# Altium footprint library Resistors.PcbLib: 27 footprints (part 2 of 2)
Each footprint in its own frame and in the unit in brackets; x right, y up, seen from the top. Pads: shape width x height; smd on the part's side, far side on the other; paste and mask are expansions set on the pad; w line width, h text height; cw(c..) or ccw(c..) is an arc to the next point about the centre after c.
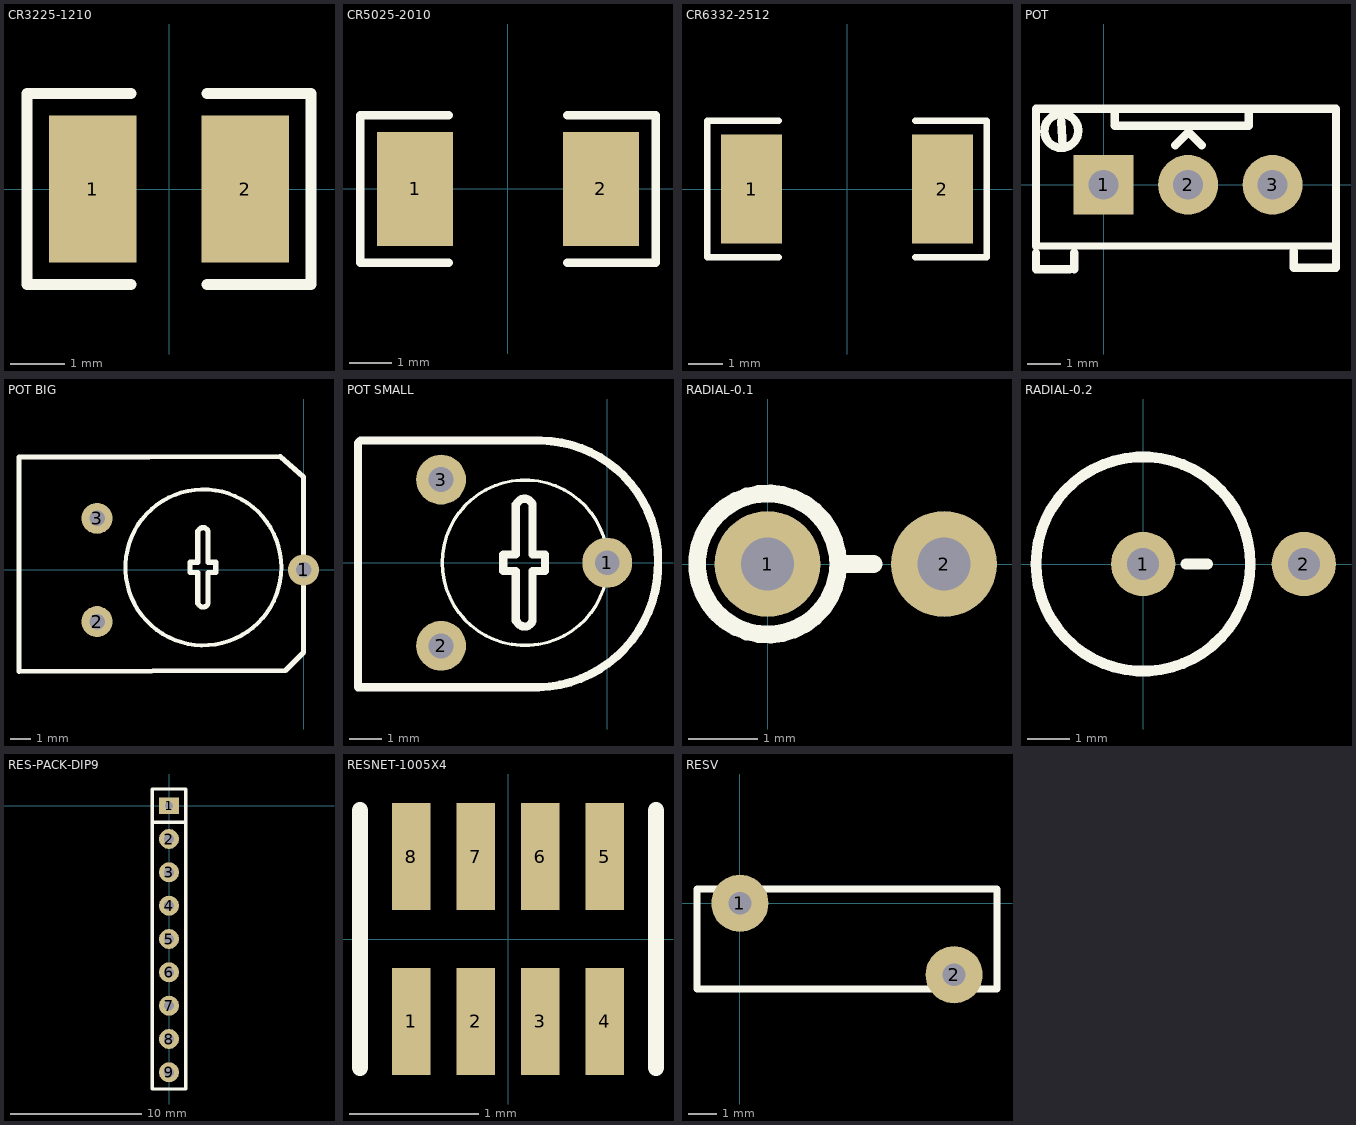
[diagram p1: the footprints below, top view; thin cyan lines are the x and y axes]

## CR3225-1210 [mm]
pads (2):
  rect 1.6x2.7 smd: 1(-1.4,0) 2(1.4,0)
Top Overlay:
  lines w0.2: -0.7,-1.75 -2.6,-1.75 -2.6,1.75 -0.7,1.75 ; 0.7,-1.75 2.6,-1.75 2.6,1.75 0.7,1.75

## CR5025-2010 [mm]
pads (2):
  rect 1.8x2.7 smd: 1(-2.2,0) 2(2.2,0)
Top Overlay:
  lines w0.2: -1.4,-1.75 -3.5,-1.75 -3.5,1.75 -1.4,1.75 ; 1.4,-1.75 3.5,-1.75 3.5,1.75 1.4,1.75

## CR6332-2512 [mm]
pads (2):
  rect 1.8x3.2 smd: 1(-2.8,0) 2(2.8,0)
Top Overlay:
  lines w0.2: -2,-2 -4.1,-2 -4.1,2 -2,2 ; 2,-2 4.1,-2 4.1,2 2,2

## POT [mm]
pads (3):
  rect 1.8x1.8 hole 0.9: 1(0,0)
  round 1.8 hole 0.9: 2(2.54,0) 3(5.08,0)
Top Overlay:
  lines w0.203: -2.032,-1.841 6.921,-1.841
  lines w0.254: -2.032,-2.54 -2.032,-2.04 ; -2.032,-1.841 -2.032,0.46 -2.032,1.604 -2.032,2.286 6.985,2.286 6.985,0 6.985,-2.5 5.715,-2.5 5.715,-2 ; -2.016,-2.54 -1.016,-2.54 ; -1.27,1.905 -1.225,1.153 ; -0.889,-2.54 -0.889,-2.04 ; -0.762,1.651 ccw(c-1.27,1.618) -0.761,1.608 ; 0.33,2.286 0.33,1.778 4.369,1.778 4.369,2.286 ; 2.159,1.194 2.553,1.587 2.946,1.194
3D body: height 12.46, standoff -5.04, extent -2.06,-2.438 7.14,2.362

## POT BIG [mil]
height 314.96
pads (3):
  round 60 hole 30: 1(0,0) 2(-400,-100) 3(-400,100)
Top Overlay:
  circle w7.87: c-194,5 r151.08
  lines w9.84: -204.06,-64.72 ccw(c-194.49,-61.84) -185,-65 ; -204.06,75.28 cw(c-194.58,72.12) -185,75
  lines w10: -205,-65 -205,-5 -220,-5 -220,15 -205,15 -205,75 ; -185,-65 -185,-5 -170,-5 -170,15 -185,15 -185,75 ; -551.18,-196.85 -551.18,218.5 -45,220 0,180 0,-155 0,-160 -35,-195 -551.18,-196.85

## POT SMALL [mil]
pads (3):
  round 60 hole 30: 1(0,0) 2(-200,-100) 3(-200,100)
Top Overlay:
  circle w3.94: c-99,0 r99.57
  lines w9.84: -109.06,-69.72 ccw(c-99.49,-66.84) -90,-70 ; -109.06,70.28 cw(c-99.58,67.12) -90,70
  lines w10: -110,-70 -110,-10 -125,-10 -125,10 -110,10 -110,70 ; -90,-70 -90,-10 -75,-10 -75,10 -90,10 -90,70 ; -300,-150 -300,144 -297,147 -79.78,147 cw(c-81.89,4.11) 61,2 cw(c-86.71,-2.29) -82.43,-150 -300,-150
3D body: height 314.96, standoff -78.74, extent -310.85,-149.99 64.95,150.01

## RADIAL-0.1 [mil] "Stand Install"
pads (2):
  round 60 hole 30: 1(0,0) 2(100,0)
Top Overlay:
  circle w10: c0,0 r40
  lines w10: 40,0 60,0
3D body: height 400, standoff 0, extent -40.37,-40.37 60.02,40.37

## RADIAL-0.2 [mil] "Stand Install"
pads (2):
  round 60 hole 30: 1(0,0) 2(150,0)
Top Overlay:
  circle w10: c0,0 r100
  lines w10: 40,0 60,0
3D body: height 236.22, standoff 19.68, extent -100.46,-100.46 100.46,100.46

## RES-PACK-DIP9 [mil]
pads (9):
  rect 59.06x50 hole 25: 1(0,0)
  round 60 hole 30: 2(0,-100) 3(0,-200) 4(0,-300) 5(0,-400) 6(0,-500) 7(0,-600) 8(0,-700) 9(0,-800)
Top Overlay:
  lines w10: -50,-50 50,-50 ; -50,-850 -50,50 50,50 50,-850 -50,-850
3D body: height 459.24, standoff -78.74, extent -61.02,-832.41 59.06,31

## RESNET-1005X4 [mm]
pads (8):
  rect 0.3x0.83 smd: 1(-0.75,-0.64) 2(-0.25,-0.64) 3(0.25,-0.64) 4(0.75,-0.64) 5(0.75,0.64) 6(0.25,0.64) 7(-0.25,0.64) 8(-0.75,0.64)
Top Overlay:
  lines w0.127: -1.15,-1 -1.15,1 ; 1.15,-1 1.15,1
3D body: height 0.5, standoff 0, extent -1.043,-0.736 1.043,0.737

## RESV [mm]
height 5
pads (2):
  round 2 hole 0.8: 1(0,0) 2(7.5,-2.5)
Top Overlay:
  lines w0.254: -1.5,-3 9,-3 9,0.5 -1.5,0.5 -1.5,-3
3D body: height 11, standoff -2, extent -1.19,-3.12 8.81,0.58